# Altium schematic symbol library PIC18F66K80.Schlib: 1 symbol
Pins are listed as number, name and electrical type; pins without a type are passive.

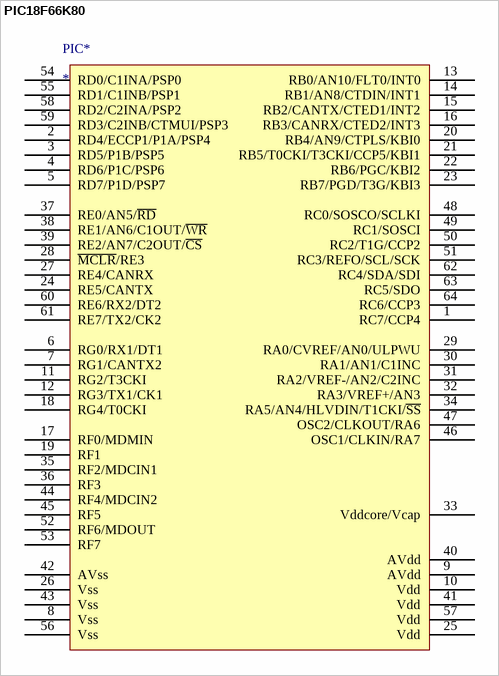
[diagram p0: symbol PIC18F66K80]

## PIC18F66K80
designator PIC*
PIC18F66K80 8 bit MCU
footprint TQFP_64_PIC24
pins: 1 RC7/CCP4, 2 RD4/ECCP1/P1A/PSP4, 3 RD5/P1B/PSP5, 4 RD6/P1C/PSP6, 5 RD7/P1D/PSP7, 6 RG0/RX1/DT1, 7 RG1/CANTX2, 8 Vss, 9 AVdd, 10 Vdd, 11 RG2/T3CKI, 12 RG3/TX1/CK1, 13 RB0/AN10/FLT0/INT0, 14 RB1/AN8/CTDIN/INT1, 15 RB2/CANTX/CTED1/INT2, 16 RB3/CANRX/CTED2/INT3, 17 RF0/MDMIN, 18 RG4/T0CKI, 19 RF1, 20 RB4/AN9/CTPLS/KBI0, 21 RB5/T0CKI/T3CKI/CCP5/KBI1, 22 RB6/PGC/KBI2, 23 RB7/PGD/T3G/KBI3, 24 RE5/CANTX, 25 Vdd, 26 Vss, 27 RE4/CANRX, 28 ~{MCLR}/RE3, 29 RA0/CVREF/AN0/ULPWU, 30 RA1/AN1/C1INC, 31 RA2/VREF-/AN2/C2INC, 32 RA3/VREF+/AN3, 33 Vddcore/Vcap, 34 RA5/AN4/HLVDIN/T1CKI/~{SS}, 35 RF2/MDCIN1, 36 RF3, 37 RE0/AN5/~{RD}, 38 RE1/AN6/C1OUT/~{WR}, 39 RE2/AN7/C2OUT/~{CS}, 40 AVdd, 41 Vdd, 42 AVss, 43 Vss, 44 RF4/MDCIN2, 45 RF5, 46 OSC1/CLKIN/RA7, 47 OSC2/CLKOUT/RA6, 48 RC0/SOSCO/SCLKI, 49 RC1/SOSCI, 50 RC2/T1G/CCP2, 51 RC3/REFO/SCL/SCK, 52 RF6/MDOUT, 53 RF7, 54 RD0/C1INA/PSP0, 55 RD1/C1INB/PSP1, 56 Vss, 57 Vdd, 58 RD2/C2INA/PSP2, 59 RD3/C2INB/CTMUI/PSP3, 60 RE6/RX2/DT2, 61 RE7/TX2/CK2, 62 RC4/SDA/SDI, 63 RC5/SDO, 64 RC6/CCP3